# EAGLE library part ZXLD1374 (library LillyLib)
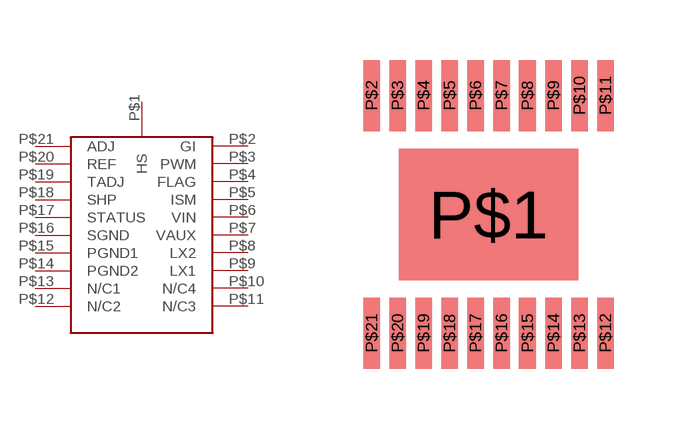
[diagram p0: symbol with the pads of TSSOP-20EP; footprint TSSOP-20EP]

Designator prefix -

## ZXLD1374  [TSSOP-20EP]
P$1  HS
P$2  GI
P$3  PWM
P$4  FLAG
P$5  ISM
P$6  VIN
P$7  VAUX
P$8  LX2
P$9  LX1
P$10  N/C4
P$11  N/C3
P$12  N/C2
P$13  N/C1
P$14  PGND2
P$15  PGND1
P$16  SGND
P$17  STATUS
P$18  SHP
P$19  TADJ
P$20  REF
P$21  ADJ

## Footprint TSSOP-20EP (pad centres in mm)
smd 4.49 x 3.29: P$1 0,0
smd 0.42 x 1.78: P$2 -2.925,2.97; P$3 -2.275,2.97; P$4 -1.625,2.97; P$5 -0.975,2.97; P$6 -0.325,2.97; P$7 0.325,2.97; P$8 0.975,2.97; P$9 1.625,2.97; P$10 2.275,2.97; P$11 2.925,2.97; P$12 2.925,-2.97; P$13 2.275,-2.97; P$14 1.625,-2.97; P$15 0.975,-2.97; P$16 0.325,-2.97; P$17 -0.325,-2.97; P$18 -0.975,-2.97; P$19 -1.625,-2.97; P$20 -2.275,-2.97; P$21 -2.925,-2.97